# Altium schematic symbol library OpBots.SchLib: 3 symbols
Pins are listed as number, name and electrical type; pins without a type are passive.

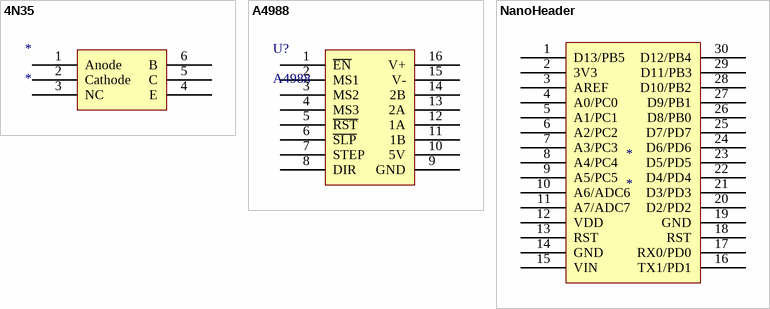
[diagram p0: symbols 4N35 to NanoHeader]

## 4N35
designator *
footprint DIP6LGE
pins: 1 Anode, 2 Cathode, 3 NC, 4 E, 5 C, 6 B

## A4988
designator U?
pins: 1 ~{EN}, 2 MS1, 3 MS2, 4 MS3, 5 ~{RST}, 6 ~{SLP}, 7 STEP, 8 DIR, 9 GND, 10 5V, 11 1B, 12 1A, 13 2A, 14 2B, 15 V-, 16 V+

## NanoHeader
designator *
footprint DIP30
pins: 1 D13/PB5, 2 3V3, 3 AREF, 4 A0/PC0, 5 A1/PC1, 6 A2/PC2, 7 A3/PC3, 8 A4/PC4, 9 A5/PC5, 10 A6/ADC6, 11 A7/ADC7, 12 VDD, 13 RST, 14 GND, 15 VIN, 16 TX1/PD1, 17 RX0/PD0, 18 RST, 19 GND, 20 D2/PD2, 21 D3/PD3, 22 D4/PD4, 23 D5/PD5, 24 D6/PD6, 25 D7/PD7, 26 D8/PB0, 27 D9/PB1, 28 D10/PB2, 29 D11/PB3, 30 D12/PB4